# EAGLE library part STMPE610 (library microbuilder)
STMPE610 - 12-Bit Touch Screen Controller
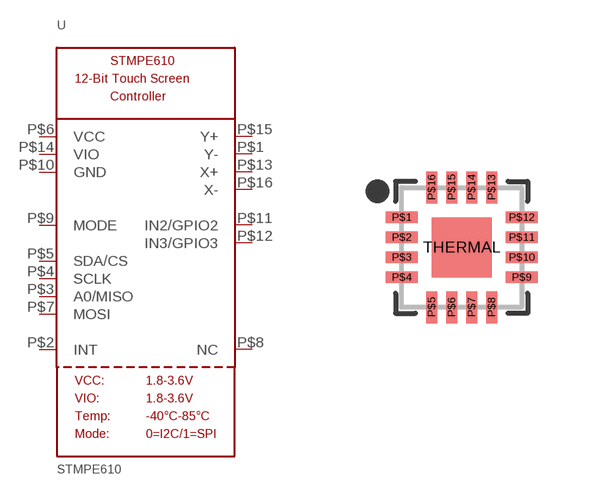
[diagram p214: symbol with the pads of QFN16_3MM; footprint QFN16_3MM]

Designator prefix U

## STMPE610  [QFN16_3MM]
P$1  Y-  in
P$2  INT  out
P$3  A0/MISO
P$4  SCLK
P$5  SDA/CS
P$6  VCC  pwr
P$7  MOSI  in
P$8  NC  nc
P$9  MODE  in
P$10  GND  pwr
P$11  IN2/GPIO2
P$12  IN3/GPIO3
P$13  X+  in
P$14  VIO  pwr
P$15  Y+  in
P$16  X-  in

## Footprint QFN16_3MM (pad centres in mm)
smd 0.8 x 0.28: P$1 -1.5,0.75; P$2 -1.5,0.25; P$3 -1.5,-0.25; P$4 -1.5,-0.75; P$9 1.5,-0.75; P$10 1.5,-0.25; P$11 1.5,0.25; P$12 1.5,0.75
smd 0.28 x 0.8: P$5 -0.75,-1.5; P$6 -0.25,-1.5; P$7 0.25,-1.5; P$8 0.75,-1.5; P$13 0.75,1.5; P$14 0.25,1.5; P$15 -0.25,1.5; P$16 -0.75,1.5
smd 1.5 x 1.5: THERMAL 0,0